# Altium schematic symbol library FuseBoard.SchLib: 6 symbols
Pins are listed as number, name and electrical type; pins without a type are passive.

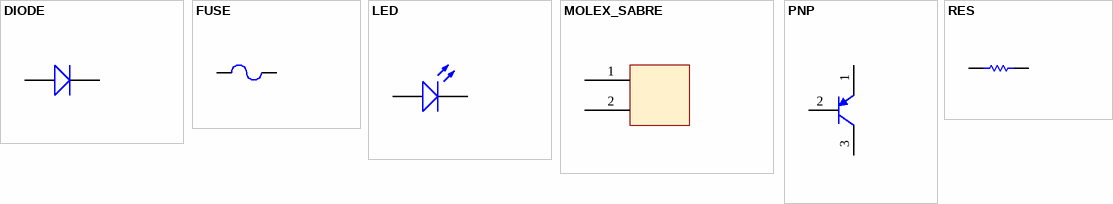
[diagram p0: symbols DIODE to RES]

## DIODE
designator D?
footprint DIOC5226X24L (Chip Diode, 2-Leads, Body 5.20x2.61mm, IPC High Density)
pins: A, C

## FUSE
designator F?
footprint FUSE HOLDER
pins: 1, 2

## LED
designator D?
footprint DIOC1608X08L (Chip Diode, 2-Leads, Body 1.60x0.80mm, IPC High Density)
pins: A, C

## MOLEX_SABRE
designator J?
footprint 1720420202 (Molex Super Sabre connector, board mount)
pins: 1 Pin, 2 Pin

## PNP
designator T?
footprint SOT100P240X110-3N (SOT23, 3-Leads, Body 2.90x2.40mm, Pitch 1.00mm, IPC Medium Density)
pins: 1 E1, 2 B1, 3 C1

## RES
designator R?
footprint RESC3115X06L (Chip Resistor, 2-Leads, Body 3.10x1.50mm, IPC High Density)
pins: 1, 2